# Altium footprint library Footprint_Nmos.PcbLib: 10 footprints
Each footprint in its own frame and in the unit in brackets; x right, y up, seen from the top. Pads: shape width x height; smd on the part's side, far side on the other; paste and mask are expansions set on the pad; w line width, h text height; cw(c..) or ccw(c..) is an arc to the next point about the centre after c.
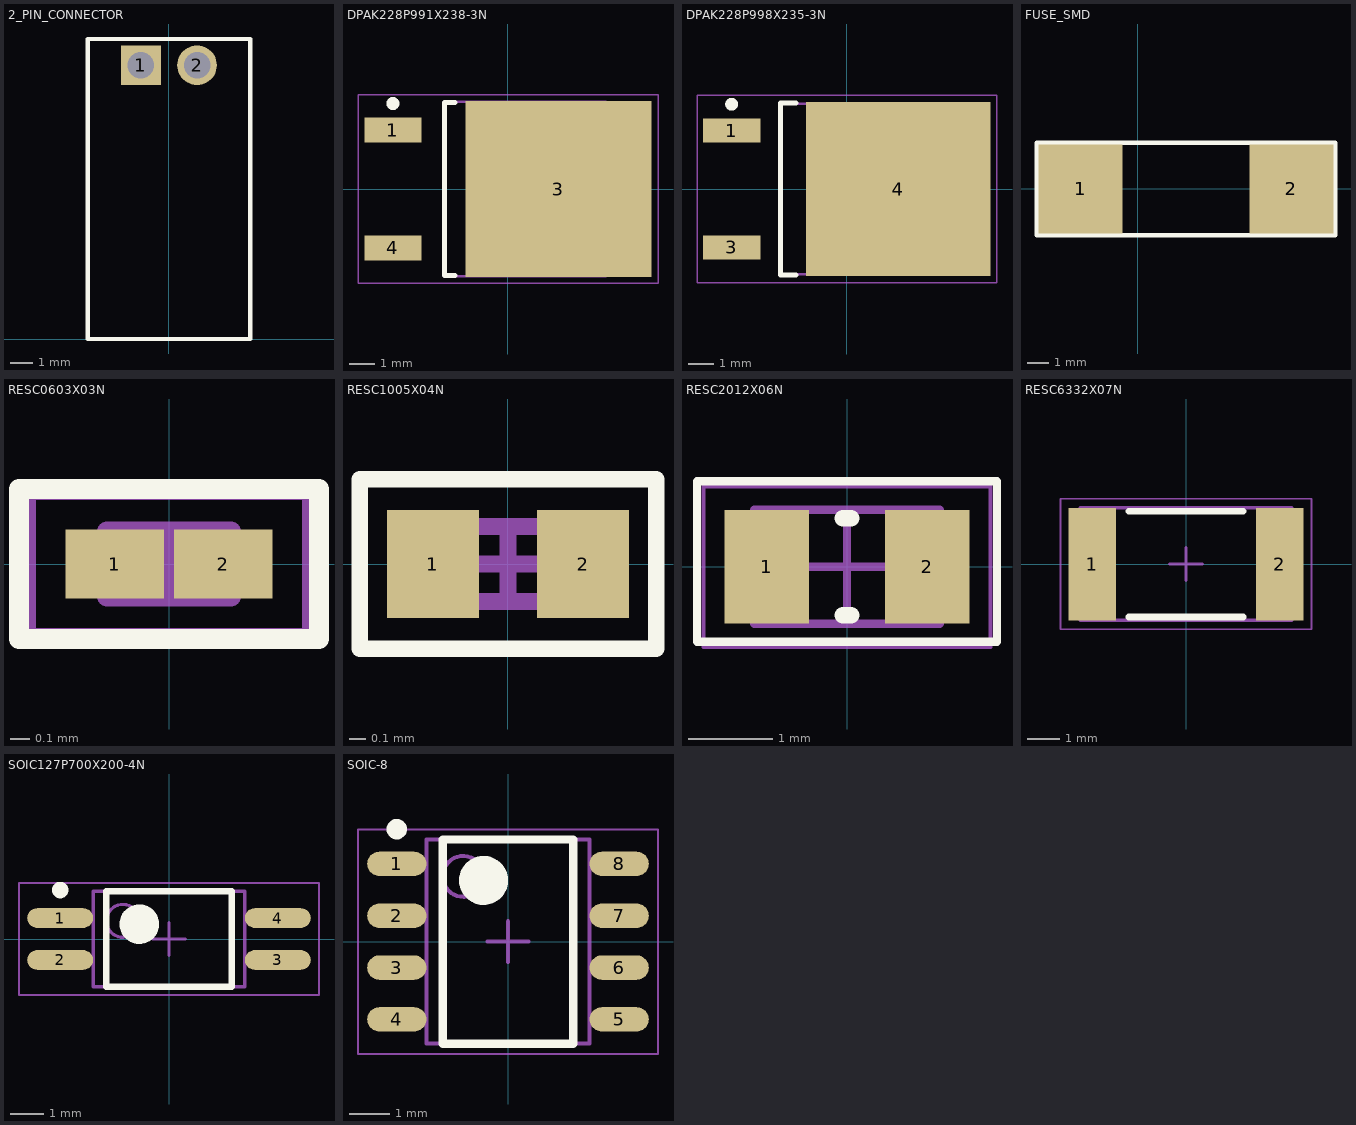
[diagram p0: the footprints below, top view; thin cyan lines are the x and y axes]

## 2_PIN_CONNECTOR [mm]
pads (2):
  rect 1.8x1.8 hole 1.2: 1(-1.27,12.4)
  round 1.8 hole 1.2: 2(1.27,12.4)
Top Overlay:
  lines w0.2: -3.683,0 3.683,0 3.683,13.589 -3.683,13.589 -3.683,0
3D body "705530001.stp": height 4.06, standoff -6.22, extent -3.683,0 3.683,13.589

## DPAK228P991X238-3N [mm] "D-PAK, 3-Pads, Body 6.21x6.73mm (max), IPC Medium Density"
height 2.38
pads (3):
  rect 2.2x0.95 smd: 1(-4.45,2.28) 4(-4.45,-2.28)
  rect 7.2x6.8 smd: 3(1.95,0)
Top Overlay:
  circle w0.25: c-4.45,3.305 r0.125
  lines w0.2: -2.05,-3.35 -2.45,-3.35 -2.45,3.35 -2.05,3.35
Mechanical 13:
  lines w0.1: -2.45,-3.375 3.77,-3.375 3.77,3.375 -2.45,3.375 -2.45,-3.375
Mechanical 15:
  lines w0.05: -5.8,-3.65 5.8,-3.65 5.8,3.65 -5.8,3.65 -5.8,-3.65
  lines w0.1: -0.5,0 0.5,0 ; 0,-0.5 0,0.5
3D body "DPAK228P991X238-3N.step": height 2.38, standoff 0, extent -4.6,-3.375 5.305,3.375

## DPAK228P998X235-3N [mm] "D-PAK, 3-Pads, Body 6.31x6.69mm (max), IPC Medium Density"
height 2.35
pads (3):
  rect 2.25x0.95 smd: 1(-4.5,2.28) 3(-4.5,-2.28)
  rect 7.2x6.8 smd: 4(2,0)
Top Overlay:
  circle w0.25: c-4.5,3.305 r0.125
  lines w0.2: -2,-3.35 -2.6,-3.35 -2.6,3.35 -2,3.35
Mechanical 13:
  lines w0.1: -2.6,-3.325 3.82,-3.325 3.82,3.325 -2.6,3.325 -2.6,-3.325
Mechanical 15:
  lines w0.05: -5.85,-3.65 5.85,-3.65 5.85,3.65 -5.85,3.65 -5.85,-3.65
  lines w0.1: -0.5,0 0.5,0 ; 0,-0.5 0,0.5
3D body "DPAK228P998X235-3N.step": height 2.45, standoff 0, extent -4.625,-3.325 5.355,3.325

## FUSE_SMD [mm]
pads (2):
  rect 3.81x4.06 smd: 1(-2.6,0) 2(7,0)
Top Overlay:
  lines w0.2: -4.6,-2.1 -4.6,2.1 9,2.1 9,-2.1 -4.6,-2.1

## RESC0603X03N [mm] "Chip Resistor, 2-Leads, Body 0.60x0.30mm, IPC Medium Density"
height 0.26
pads (2):
  rect 0.5x0.35 smd: 1(-0.275,0) 2(0.275,0)
Top Overlay:
  lines w0.1: -0.762,-0.381 0.762,-0.381 0.762,0.381 -0.762,0.381 -0.762,-0.381
Mechanical 13:
  lines w0.1: -0.315,-0.165 -0.315,0.165 0.315,0.165 0.315,-0.165 -0.315,-0.165
Mechanical 15:
  lines w0.05: -0.7,-0.35 -0.7,0.35 0.7,0.35 0.7,-0.35 -0.7,-0.35
  lines w0.1: -0.165,0 0.165,0 ; 0,-0.165 0,0.165
3D body: height 0.26, standoff 0, extent -0.115,-0.165 0.115,0.165
3D body: height 0.26, standoff 0, extent -0.315,-0.165 -0.115,0.165
3D body: height 0.26, standoff 0, extent 0.115,-0.165 0.315,0.165

## RESC1005X04N [mm] "Chip Resistor, 2-Leads, Body 1.00x0.50mm, IPC Medium Density"
height 0.4
pads (2):
  rect 0.55x0.65 smd: 1(-0.45,0) 2(0.45,0)
Top Overlay:
  lines w0.1: -0.127,0.508 -0.889,0.508 ; -0.889,0.508 0.889,0.508 0.889,-0.508 -0.889,-0.508 -0.889,0.508
Mechanical 13:
  lines w0.1: -0.525,-0.225 0.525,-0.225 0.525,0.225 -0.525,0.225 -0.525,-0.225
Mechanical 15:
  lines w0.05: -0.9,-0.5 0.9,-0.5 0.9,0.5 -0.9,0.5 -0.9,-0.5
  lines w0.1: -0.225,0 0.225,0 ; 0,-0.225 0,0.225
3D body: height 0.4, standoff 0, extent 0.325,-0.225 0.525,0.225
3D body: height 0.4, standoff 0, extent -0.525,-0.225 -0.325,0.225
3D body: height 0.4, standoff 0, extent -0.325,-0.225 0.325,0.225

## RESC2012X06N [mm] "Chip Resistor, 2-Leads, Body 2.00x1.25mm, IPC Medium Density"
height 0.6
pads (2):
  rect 1x1.35 smd: 1(-0.95,0) 2(0.95,0)
Top Overlay:
  lines w0.1: -1.778,-0.889 -1.778,1.016 1.778,1.016 1.778,-0.889 -1.778,-0.889
  lines w0.2: -0.05,-0.575 0.05,-0.575 ; -0.05,0.575 0.05,0.575
Mechanical 13:
  lines w0.1: -1.1,-0.675 -1.1,0.675 1.1,0.675 1.1,-0.675 -1.1,-0.675
Mechanical 15:
  lines w0.05: -1.7,-0.95 -1.7,0.95 1.7,0.95 1.7,-0.95 -1.7,-0.95
  lines w0.1: -0.5,0 0.5,0 ; 0,-0.5 0,0.5
3D body "RESC2012X06N.step": height 0.6, standoff 0, extent -1.1,-0.675 1.1,0.675

## RESC6332X07N [mm] "Chip Resistor, 2-Leads, Body 6.30x3.20mm, IPC Medium Density"
height 0.7
pads (2):
  rect 1.45x3.45 smd: 1(-2.875,0) 2(2.875,0)
Top Overlay:
  lines w0.2: -1.75,-1.625 1.75,-1.625 ; -1.75,1.625 1.75,1.625
Mechanical 13:
  lines w0.1: -3.25,-1.725 3.25,-1.725 3.25,1.725 -3.25,1.725 -3.25,-1.725
Mechanical 15:
  lines w0.05: -3.85,-2 3.85,-2 3.85,2 -3.85,2 -3.85,-2
  lines w0.1: -0.5,0 0.5,0 ; 0,-0.5 0,0.5
3D body "RESC6332X07N.step": height 0.7, standoff 0, extent -3.25,-1.725 3.25,1.725

## SOIC127P700X200-4N [mm] "SOIC, 4-Leads, Body 2.70x4.40mm, Pitch 1.27mm, IPC Medium Density"
height 2
pads (4):
  oval 2x0.6 smd: 1(-3.3,0.635) 2(-3.3,-0.635) 3(3.3,-0.635) 4(3.3,0.635)
Top Overlay:
  circle w0.25: c-3.3,1.485 r0.125
  circle w0.6: c-0.9,0.45 r0.3
  lines w0.2: -1.9,-1.45 -1.9,1.45 1.9,1.45 1.9,-1.45 -1.9,-1.45
Mechanical 13:
  circle w0.1: c-1.4,0.55 r0.5
  lines w0.1: -2.3,-1.45 -2.3,1.45 2.3,1.45 2.3,-1.45 -2.3,-1.45
Mechanical 15:
  lines w0.05: -4.55,-1.7 -4.55,1.7 4.55,1.7 4.55,-1.7 -4.55,-1.7
  lines w0.1: -0.5,0 0.5,0 ; 0,-0.5 0,0.5
3D body: height 2, standoff 0.1, extent -2.3,-1.45 2.3,1.45

## SOIC-8 [mm] "SOIC, 8-Leads, Body 4.90x3.90mm, Pitch 1.27mm, IPC Medium Density"
height 1.75
pads (8):
  oval 1.45x0.6 smd: 1(-2.725,1.905) 2(-2.725,0.635) 3(-2.725,-0.635) 4(-2.725,-1.905) 5(2.725,-1.905) 6(2.725,-0.635) 7(2.725,0.635) 8(2.725,1.905)
Top Overlay:
  circle w0.25: c-2.725,2.755 r0.125
  circle w0.6: c-0.6,1.5 r0.3
  lines w0.2: -1.6,-2.5 -1.6,2.5 1.6,2.5 1.6,-2.5 -1.6,-2.5
Mechanical 13:
  circle w0.1: c-1.1,1.6 r0.5
  lines w0.1: -2,-2.5 -2,2.5 2,2.5 2,-2.5 -2,-2.5
Mechanical 15:
  lines w0.05: -3.675,-2.75 -3.675,2.75 3.675,2.75 3.675,-2.75 -3.675,-2.75
  lines w0.1: -0.5,0 0.5,0 ; 0,-0.5 0,0.5
3D body "SOIC127P600X175-8N.step": height 1.75, standoff 0, extent -3,-2.5 3,2.5